# Altium footprint library Footprint_SMT_Sensors.PcbLib: 2 footprints
Each footprint in its own frame and in the unit in brackets; x right, y up, seen from the top. Pads: shape width x height; smd on the part's side, far side on the other; paste and mask are expansions set on the pad; w line width, h text height; cw(c..) or ccw(c..) is an arc to the next point about the centre after c.
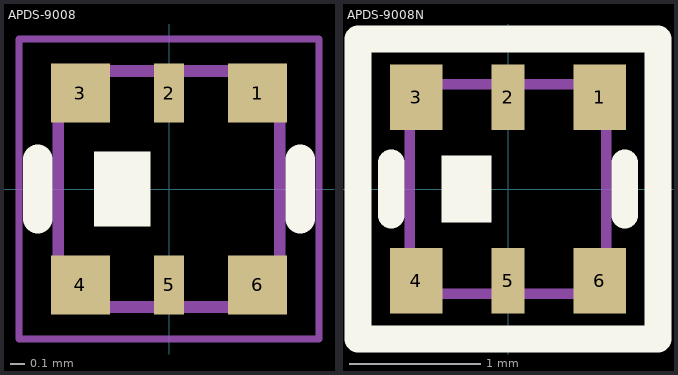
[diagram p0: the footprints below, top view; thin cyan lines are the x and y axes]

## APDS-9008 [mm] "SMT 1.6mm x 1.5mm x 0.55mm Ambient Light Sensor"
height 0.55
pads (6):
  rect 0.4x0.4 smd: 1(0.6,0.65) 3(-0.6,0.65) 4(-0.6,-0.65) 6(0.6,-0.65)
  rect 0.2x0.4 smd: 2(0,0.65) 5(0,-0.65)
Top Overlay:
  rectangle: -0.508,-0.254 -0.127,0.254
  lines w0.2: -0.889,-0.2 -0.889,0.2 ; 0.889,-0.2 0.889,0.2
Mechanical 13:
  lines w0.08: -0.75,-0.65 cw(c-0.75,-0.8) -0.6,-0.8 0.6,-0.8 cw(c0.75,-0.8) 0.75,-0.65 0.75,0.65 cw(c0.75,0.8) 0.6,0.8 -0.6,0.8 cw(c-0.75,0.8) -0.75,0.65 -0.75,-0.65
Mechanical 15:
  lines w0.05: -1.016,-1.016 -1.016,1.016 1.016,1.016 1.016,-1.016 -1.016,-1.016
3D body: height 0.55, standoff 0, extent -0.75,-0.508 0.75,0.508
3D body: height 0.18, standoff 0, extent -0.75,-0.8 0.75,0.8

## APDS-9008N [mm] "SMT 1.6mm x 1.5mm x 0.55mm Ambient Light Sensor"
height 0.55
pads (6):
  rect 0.4x0.5 smd: 1(0.7,0.7) 3(-0.7,0.7) 4(-0.7,-0.7) 6(0.7,-0.7)
  rect 0.25x0.5 smd: 2(0,0.7) 5(0,-0.7)
Top Overlay:
  rectangle: -0.508,-0.254 -0.127,0.254
  lines w0.2: -0.889,-0.2 -0.889,0.2 ; 0.889,-0.2 0.889,0.2
  lines w0.203: -1.143,-1.143 1.143,-1.143 1.143,1.143 -1.143,1.143 -1.143,-1.143
Mechanical 13:
  lines w0.08: -0.75,-0.65 cw(c-0.75,-0.8) -0.6,-0.8 0.6,-0.8 cw(c0.75,-0.8) 0.75,-0.65 0.75,0.65 cw(c0.75,0.8) 0.6,0.8 -0.6,0.8 cw(c-0.75,0.8) -0.75,0.65 -0.75,-0.65
Mechanical 15:
  lines w0.05: -1.143,-1.143 1.143,-1.143 1.143,1.143 -1.143,1.143 -1.143,-1.143
3D body: height 0.18, standoff 0, extent -0.75,-0.8 0.75,0.8
3D body: height 0.55, standoff 0, extent -0.75,-0.508 0.75,0.508